# Altium schematic symbol library lib_toshiba.SchLib: 4 symbols
Pins are listed as number, name and electrical type; pins without a type are passive.

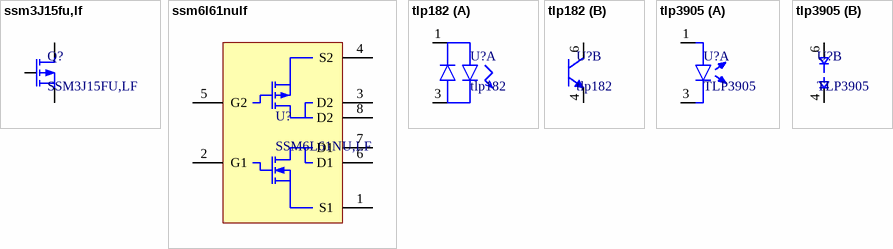
[diagram p0: symbols ssm3J15fu,lf to tlp3905]

## ssm3J15fu,lf
designator Q?, comment SSM3J15FU,LF
Field Effect Transistor Silicon P Channel MOS Type; ComponentLink1Description: datasheet; ComponentLink1URL: https://www.mouser.se/datasheet/2/408/SSM3J15FU_datasheet_en_20140301-1272661.pdf
footprint SOT65P210X100-3N (SOT23, 3-Leads, Body 2,00x2,10mm, Pitch 0,65mm, IPC Medium Density)
pins: D, G, S

## ssm6l61nulf
designator U?, comment SSM6L61NU,LF
2 MOSFET in one package. 1 NMOS and one PMOS.; ComponentLink1Description: datasheet; ComponentLink1URL: http://toshiba.semicon-storage.com/ap-en/product/mosfet/detail.SSM6L61NU.html
footprint SON65P200X80_HS-7N (SON, 6-Leads, Body 2,00x2,00mm, Pitch 0,65mm, Thermal Pad 0,65x0,74mm, IPC Medium Density)
pins: 1 S1, 2 G1, 3 D2, 4 S2, 5 G2, 6 D1, 7 D1, 8 D2

## tlp182
designator U?
TLP182 low AC input type photocoupler; ComponentLink1Description: Datasheet; ComponentLink1URL: https://www.mouser.se/datasheet/2/408/TLP182_datasheet_en_20191015-1916255.pdf
footprint SOP127P700X230-6N_11-4M1S (SOP, 6-Leads, Body 3.75x4.60mm, Pitch 1.27mm, IPC Medium Density)
part A pins: 1 AC, 3 CA
part B pins: 4 E, 6 C

## tlp3905
designator U?, comment TLP3905
TLP3905 Photovoltaic optocoupler; ComponentLink1Description: Datasheet; ComponentLink1URL: https://www.mouser.se/datasheet/2/408/TLP3905_datasheet_en_20200929-1916319.pdf
footprint SOP127P700X230-6N_11-4M1S (SOP, 6-Leads, Body 3.75x4.60mm, Pitch 1.27mm, IPC Medium Density)
part A pins: 1 AC, 3 CA
part B pins: 4 E, 6 C